# EAGLE library part LTC6090 (library ICs)
140V CMOS Rail-to-Rail Output, Picoamp Input Current Op Amp
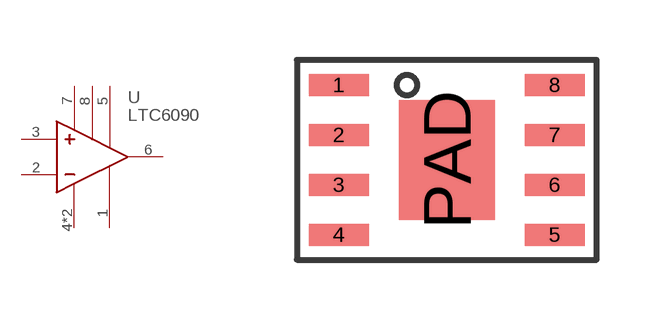
[diagram p203: symbol with the pads of SO8_PP; footprint SO8_PP]

Designator prefix U

## LTC6090CS8E-5#PBF (DIGIKEY: LTC6090CS8E-5#PBF-ND; HEIGHT: 1.5; PRICE_PER: 5.85; VALUE: LTC6090-5)  [SO8_PP]
1  COM
2  IN-
3  IN+
4  V-
5  TFLAG
6  OUT
7  V+
8  OD
PAD  V-

## Footprint SO8_PP (pad centres in mm)
smd 1.5 x 0.55: 1 -2.7,1.875; 2 -2.7,0.625; 3 -2.7,-0.625; 4 -2.7,-1.875; 5 2.7,-1.875; 6 2.7,-0.625; 7 2.7,0.625; 8 2.7,1.875
smd 2.4 x 3: PAD 0,0